# Altium schematic symbol library diode.SchLib: 23 symbols
Pins are listed as number, name and electrical type; pins without a type are passive.

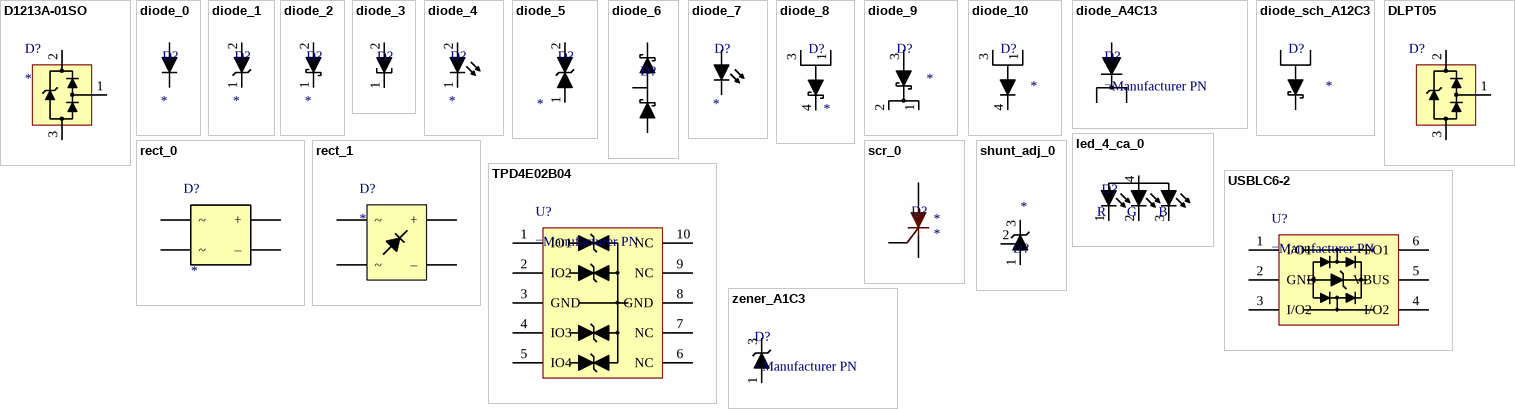
[diagram p0: symbols D1213A-01SO to zener_A1C3]

## D1213A-01SO
designator D?
TVS Diode Array, Diodes Inc. D1213A-01SO; Manufacturer PN: *
pins: 1 LINE, 2 VCC, 3 GND

## diode_0
designator D?
Standard Diode; Forward Voltage: *; Reverse Breakdown Voltage: *; Type: *; Current Rating: *
footprint sod123_0 (SOD123, 1.65mm x 2.70mm)
footprint sod323_0 (SOD-323, 1.25mm x 1.7mm)
footprint do-214aa (DO-214AA, SMB)
footprint do-214ab (DO-214AB, SMC)
footprint do-214ac (DO-214AC, SMA)
footprint sot-23 (SOT-23 package); pin to pad 1>3 2>1
pins: 1, 2

## diode_1
designator D?
Zener Diode; Forward Voltage: *; Type: *; Current Rating: *; Reverse Breakdown Voltage: *
footprint sod123_0 (SOD123, 1.65mm x 2.70mm)
footprint sod323_0 (SOD-323, 1.25mm x 1.7mm)
footprint do-214aa (DO-214AA, SMB)
footprint do-214ab (DO-214AB, SMC)
footprint do-214ac (DO-214AC, SMA)
footprint sot-23 (SOT-23 package); pin to pad 1>3 2>1
pins: 1, 2

## diode_2
designator D?
Schottky Diode; Forward Voltage: *; Type: *; Reverse Breakdown Voltage: *; Current Rating: *
footprint sod123_0 (SOD123, 1.65mm x 2.70mm)
footprint sod323_0 (SOD-323, 1.25mm x 1.7mm)
footprint do-214aa (DO-214AA, SMB)
footprint do-214ab (DO-214AB, SMC)
footprint do-214ac (DO-214AC, SMA)
footprint sot-23 (SOT-23 package); pin to pad 1>3 2>1
pins: 1, 2

## diode_3
designator D?  (value not drawn)
Tunnel Diode; Forward Voltage: *; Type: *; Reverse Breakdown Voltage: *; Current Rating: *
footprint sod123_0 (SOD123, 1.65mm x 2.70mm)
footprint sod323_0 (SOD-323, 1.25mm x 1.7mm)
footprint do-214aa (DO-214AA, SMB)
footprint do-214ab (DO-214AB, SMC)
footprint do-214ac (DO-214AC, SMA)
footprint sot-23 (SOT-23 package); pin to pad 1>3 2>1
pins: 1, 2

## diode_4
designator D?
Light Emitting Diode; Type: *; Reverse Breakdown Voltage: *; Current Rating: *; Forward Voltage: *
pins: 1, 2

## diode_5
designator D?
TVS Diode, Bidirectional; Forward Voltage: *; Type: *; Current Rating: *; Reverse Breakdown Voltage: *
footprint sod123_0 (SOD123, 1.65mm x 2.70mm)
footprint sod323_0 (SOD-323, 1.25mm x 1.7mm)
footprint do-214aa (DO-214AA, SMB)
footprint do-214ab (DO-214AB, SMC)
footprint do-214ac (DO-214AC, SMA)
footprint sot-23 (SOT-23 package); pin to pad 1>3 2>1
pins: 1, 2

## diode_6
designator D?  (value not drawn)
Schottky Series Diodes
pins: 1, 2, 3

## diode_7
designator D?
single LED, 4 leads, anode: 2, cathode: 4; Current Rating: *; Reverse Breakdown Voltage: *; Type: *; Forward Voltage: *
pins: 2, 4

## diode_8
designator D?
Schottky, Dual Anode; Forward Voltage: *; Reverse Breakdown Voltage: *; Current Rating: *; Type: *; Manufacturer PN: *
pins: 1, 3, 4

## diode_9
designator D?
Schottky, Dual Cathode; Current Rating: *; Type: *; Forward Voltage: *; Reverse Breakdown Voltage: *; Manufacturer PN: *
pins: 1 C1, 2 C2, 3 A

## diode_10
designator D?
Standard Diode, Dual Anode; Forward Voltage: *; Current Rating: *; Reverse Breakdown Voltage: *; Type: *; Manufacturer PN: *
pins: 1, 3, 4

## diode_A4C13
designator D?
Standard Diode, Anode pins 1+3, Cathode pin 4
pins: 1, 3, 4

## diode_sch_A12C3
designator D?
Schottky, Dual Anode (A12, C3); Current Rating: *; Forward Voltage: *; Type: *; Reverse Breakdown Voltage: *; Manufacturer PN: *
pins: 1, 2, 3

## DLPT05
designator D?  (value not drawn)
TVS Diode Array, Diodes Inc. DLPT05 series; Manufacturer PN: *
pins: 1 LINE, 2 VCC, 3 GND

## led_4_ca_0
designator D?  (value not drawn)
LED Common Anode
pins: 1, 2, 3, 4
text: R; G; B

## rect_0
designator D?
Full Bridge Rectifier; Current Rating: *; Manufacturer PN: *
pins: 1 +, 2 ~, 3 ~, 4 –

## rect_1
designator D?
Full Bridge Rectifier; Current Rating: *; Manufacturer PN: *
pins: 1 +, 2 –, 3 ~, 4 ~

## scr_0
designator D?
Thyristor, Silicon Controlled Rectifier; Forward Voltage: *; Type: *; Current Rating: *; Manufacturer PN: *
pins: 1 K, 2 A, 3 G

## shunt_adj_0
designator D?
Shunt Regulator; Forward Voltage: *; Type: *; Current Rating: *; Reverse Breakdown Voltage: *
footprint sot-23-3 (SOT-23-3 package)
pins: 1, 2 3, 3

## TPD4E02B04
designator U?
Quad TVS diodes 10-pin
pins: 1 IO1, 2 IO2, 3 GND, 4 IO3, 5 IO4, 6 NC, 7 NC, 8 GND, 9 NC, 10 NC

## USBLC6-2
designator U?
ESD Protection diodes
pins: 1 I/O1, 2 GND, 3 I/O2, 4 I/O2, 5 VBUS, 6 I/O1

## zener_A1C3
designator D?
Zener, Anode pin 1, Cathode pin 3
pins: 1, 3